# Altium footprint library IntegratedCircuitsFootprints.PcbLib: 13 footprints
Each footprint in its own frame and in the unit in brackets; x right, y up, seen from the top. Pads: shape width x height; smd on the part's side, far side on the other; paste and mask are expansions set on the pad; w line width, h text height; cw(c..) or ccw(c..) is an arc to the next point about the centre after c.
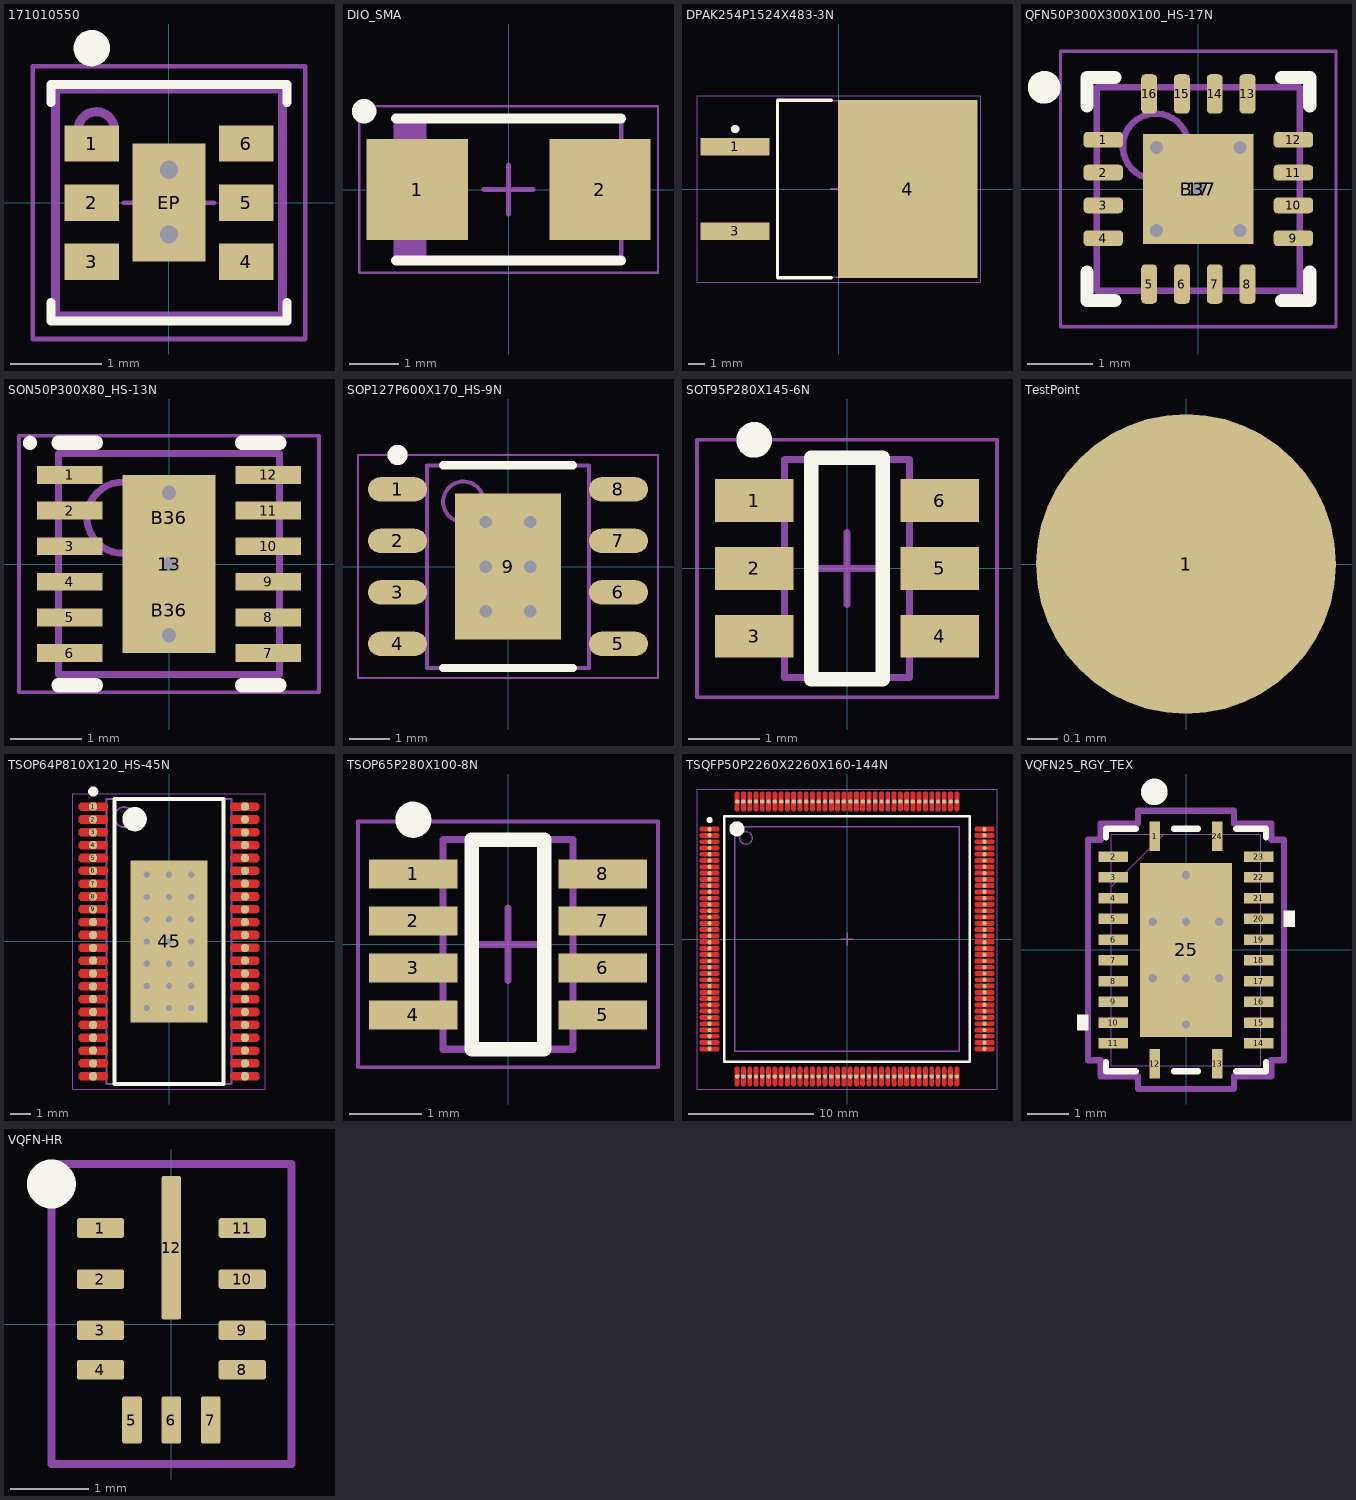
[diagram p0: the footprints below, top view; thin cyan lines are the x and y axes]

## 171010550 [mm]
pads (7):
  rect 0.6x0.4 smd mask+0.102: 1(-0.85,0.65) 2(-0.85,0) 3(-0.85,-0.65) 4(0.85,-0.65) 5(0.85,0) 6(0.85,0.65)
  rect 0.8x1.3 smd mask+0.102: EP(0,0)
via 0,0.362 diameter 0.4 hole 0.2
via 0,-0.349 diameter 0.4 hole 0.2
Top Overlay:
  circle w0.2: c-0.85,1.7 r0.1
  lines w0.1: -1.3,-1.1 -1.3,-1.3 1.3,-1.3 1.3,-1.1 ; -1.3,1.1 -1.3,1.3 1.3,1.3 1.3,1.1
Top 3D Body:
  circle w0.1: c-0.8,0.8 r0.2
  lines w0.1: -1.25,-1.25 1.25,-1.25 1.25,1.25 -1.25,1.25 -1.25,-1.25
Top Courtyard:
  lines w0.05: -0.5,0 0.5,0 ; 0,-0.5 0,0.5 ; -1.5,-1.5 1.5,-1.5 1.5,1.5 -1.5,1.5 -1.5,-1.5
Top Component Outline:
  circle w0.1: c-0.8,0.8 r0.2
  lines w0.1: -1.25,-1.25 1.25,-1.25 1.25,1.25 -1.25,1.25 -1.25,-1.25
3D body "171010550 (rev1).stp": height 1.23, standoff 0.02, extent -1.25,-1.25 1.25,1.25

## DIO_SMA [mm] "Molded Diode, 2-Leads, Body 4.30x2.70mm, IPC Medium Density"
height 2.44
pads (2):
  rect 2.07x2.06 smd: 1(-1.865,0) 2(1.865,0)
Top Overlay:
  circle w0.25: c-2.95,1.6 r0.125
  lines w0.2: -2.3,-1.45 2.3,-1.45 ; -2.3,1.45 2.3,1.45
Mechanical 13:
  rectangle: -2.3,-1.45 -1.681,1.45
  lines w0.1: -2.3,-1.45 2.3,-1.45 2.3,1.45 -2.3,1.45 -2.3,-1.45
Mechanical 15:
  lines w0.05: -3.05,-1.7 3.05,-1.7 3.05,1.7 -3.05,1.7 -3.05,-1.7
  lines w0.1: -0.5,0 0.5,0 ; 0,-0.5 0,0.5
3D body "DIO_SMA.step": height 2.44, standoff 0, extent -2.52,-1.45 2.52,1.45

## DPAK254P1524X483-3N [mm] "D2-PAK, 3-Pads, Body 7.93x8.70mm (max), IPC Medium Density"
height 4.83
pads (3):
  rect 4.15x1.05 smd: 1(-6.25,2.54) 3(-6.25,-2.54)
  rect 8.4x10.75 smd: 4(4.15,0)
Top Overlay:
  circle w0.25: c-6.25,3.615 r0.125
  lines w0.2: -0.45,-5.35 -3.7,-5.35 -3.7,5.35 -0.45,5.35
Mechanical 13:
  lines w0.1: -3.7,-5.325 -3.7,5.325 5.95,5.325 5.95,-5.325 -3.7,-5.325
Mechanical 15:
  lines w0.05: -8.55,-5.625 -8.55,5.625 8.55,5.625 8.55,-5.625 -8.55,-5.625
  lines w0.1: -0.5,0 0.5,0 ; 0,-0.5 0,0.5
3D body "DPAK254P1524X483-3N.step": height 4.83, standoff 0, extent -7.405,-5.325 7.84,5.325

## QFN50P300X300X100_HS-17N [mm] "QFN, 16-Leads, Body 3.00x3.00mm, Pitch 0.50mm, Thermal Pad 1.68x1.68mm, IPC Medium Density"
height 1
pads (18):
  rrect50% 0.6x0.24 smd: 1(-1.45,0.75) 2(-1.45,0.25) 3(-1.45,-0.25) 4(-1.45,-0.75) 9(1.45,-0.75) 10(1.45,-0.25) 11(1.45,0.25) 12(1.45,0.75)
  rrect50% 0.24x0.6 smd: 5(-0.75,-1.45) 6(-0.25,-1.45) 7(0.25,-1.45) 8(0.75,-1.45) 13(0.75,1.45) 14(0.25,1.45) 15(-0.25,1.45) 16(-0.75,1.45)
  rect 1.68x1.68 smd paste-1: 17(0,0)
  rrect10% 1.55x1.55 on Top Paste: B37(0,0)
via -0.635,0.635 diameter 0.4 hole 0.2
via 0.635,0.635 diameter 0.4 hole 0.2
via 0,0 diameter 0.4 hole 0.2
via -0.635,-0.635 diameter 0.4 hole 0.2
via 0.635,-0.635 diameter 0.4 hole 0.2
Top Overlay:
  circle w0.25: c-2.35,1.55 r0.125
  lines w0.2: -1.7,-1.27 -1.7,-1.7 -1.27,-1.7 ; -1.7,1.27 -1.7,1.7 -1.27,1.7 ; 1.27,-1.7 1.7,-1.7 1.7,-1.27 ; 1.27,1.7 1.7,1.7 1.7,1.27
Mechanical 13:
  circle w0.1: c-0.65,0.65 r0.5
  lines w0.1: -1.55,-1.55 -1.55,1.55 1.55,1.55 1.55,-1.55 -1.55,-1.55
Mechanical 15:
  lines w0.05: -2.1,-2.1 -2.1,2.1 2.1,2.1 2.1,-2.1 -2.1,-2.1
  lines w0.1: -0.5,0 0.5,0 ; 0,-0.5 0,0.5
3D body "QFN50P300X300X100_HS-17N.step": height 1, standoff 0, extent -1.6,-1.6 1.6,1.6

## SON50P300X80_HS-13N [mm] "SON, 12-Leads, Body 3.00x3.00mm, Pitch 0.50mm, Thermal Pad 2.50x1.30mm, IPC Medium Density"
height 0.8
pads (15):
  rect 0.92x0.25 smd paste+0 mask+0.07: 1(-1.39,1.25) 2(-1.39,0.75) 3(-1.39,0.25) 4(-1.39,-0.25) 5(-1.39,-0.75) 6(-1.39,-1.25) 7(1.39,-1.25) 8(1.39,-0.75) 9(1.39,-0.25) 10(1.39,0.25) 11(1.39,0.75) 12(1.39,1.25)
  rect 1.3x2.5 smd paste-1 mask+0.07: 13(0,0)
  rrect10% 1.21x1.1 on Top Paste: B36(0,-0.65) B36(0,0.65)
via 0,-1 diameter 0.4 hole 0.2
via 0,0 diameter 0.4 hole 0.2
via 0,1 diameter 0.4 hole 0.2
Top Overlay:
  circle w0.1: c-1.95,1.7 r0.05
  lines w0.2: -1.55,-1.7 -1.025,-1.7 ; -1.55,1.7 -1.025,1.7 ; 1.025,-1.7 1.55,-1.7 ; 1.025,1.7 1.55,1.7
Top Courtyard:
  lines w0.05: -2.105,-1.8 -2.105,1.8 2.105,1.8 2.105,-1.8 -2.105,-1.8
  lines w0.1: -0.5,0 0.5,0 ; 0,-0.5 0,0.5
Mechanical 13:
  circle w0.1: c-0.65,0.65 r0.5
  lines w0.1: -1.55,-1.55 -1.55,1.55 1.55,1.55 1.55,-1.55 -1.55,-1.55
3D body "SON50P300X80_HS-13N.step": height 0.8, standoff 0, extent -1.6,-1.55 1.6,1.55

## SOP127P600X170_HS-9N [mm] "SOP, 8-Leads, Body 4.90x3.90mm, Pitch 1.27mm, Thermal Pad 3.60x2.61mm, IPC Medium Density"
height 1.7
pads (9):
  oval 1.45x0.6 smd: 1(-2.725,1.905) 2(-2.725,0.635) 3(-2.725,-0.635) 4(-2.725,-1.905) 5(2.725,-1.905) 6(2.725,-0.635) 7(2.725,0.635) 8(2.725,1.905)
  rect 2.61x3.6 smd: 9(0,0)
via -0.55,1.1 diameter 0.61 hole 0.305
via 0.55,1.1 diameter 0.61 hole 0.305
via -0.55,0 diameter 0.61 hole 0.305
via 0.55,0 diameter 0.61 hole 0.305
via -0.55,-1.1 diameter 0.61 hole 0.305
via 0.55,-1.1 diameter 0.61 hole 0.305
Top Overlay:
  circle w0.25: c-2.725,2.755 r0.125
  lines w0.2: -1.6,-2.5 1.6,-2.5 ; -1.6,2.5 1.6,2.5
Mechanical 13:
  circle w0.1: c-1.1,1.6 r0.5
  lines w0.1: -2,-2.5 -2,2.5 2,2.5 2,-2.5 -2,-2.5
Mechanical 15:
  lines w0.05: -3.7,-2.75 -3.7,2.75 3.7,2.75 3.7,-2.75 -3.7,-2.75
  lines w0.1: -0.5,0 0.5,0 ; 0,-0.5 0,0.5
3D body "SOP127P600X170_HS-9N.step": height 1.7, standoff 0, extent -3,-2.5 3,2.5

## SOT95P280X145-6N [mm] "SOT23, 6-Leads, Body 2.90x2.80mm, Pitch 0.95mm, IPC Medium Density"
height 1.45
pads (6):
  rect 1.1x0.6 smd: 1(-1.3,0.95) 2(-1.3,0) 3(-1.3,-0.95) 4(1.3,-0.95) 5(1.3,0) 6(1.3,0.95)
Top Overlay:
  circle w0.25: c-1.3,1.8 r0.125
  lines w0.2: -0.5,-1.55 -0.5,1.55 0.5,1.55 0.5,-1.55 -0.5,-1.55
Mechanical 13:
  lines w0.1: -0.875,-1.525 0.875,-1.525 0.875,1.525 -0.875,1.525 -0.875,-1.525
Mechanical 15:
  lines w0.05: -2.1,-1.8 2.1,-1.8 2.1,1.8 -2.1,1.8 -2.1,-1.8
  lines w0.1: -0.5,0 0.5,0 ; 0,-0.5 0,0.5
3D body "SOT95P280X145-6N.step": height 1.45, standoff 0, extent -1.5,-1.525 1.5,1.525

## TestPoint [mm] "1mm"
pads (1):
  round 1 smd mask+0: 1(0,0)

## TSOP64P810X120_HS-45N [mm] "TSOP, 44-Leads, Body 14.00x6.10mm, Pitch 0.64mm, Thermal Pad 8.00x3.80mm, IPC Medium Density"
height 1.2
pads (45):
  oct 0.4x0.4 smd mask+0.05: 1(-3.75,6.667) 2(-3.75,6.032) 3(-3.75,5.397) 4(-3.75,4.763) 5(-3.75,4.127) 6(-3.75,3.492) 7(-3.75,2.857) 8(-3.75,2.222) 9(-3.75,1.587) 10(-3.75,0.953) 11(-3.75,0.318) 12(-3.75,-0.318) 13(-3.75,-0.953) 14(-3.75,-1.587) 15(-3.75,-2.222) 16(-3.75,-2.857) 17(-3.75,-3.492) 18(-3.75,-4.127) 19(-3.75,-4.763) 20(-3.75,-5.397) 21(-3.75,-6.032) 22(-3.75,-6.667) 23(3.75,-6.667) 24(3.75,-6.032) 25(3.75,-5.397) 26(3.75,-4.763) 27(3.75,-4.127) 28(3.75,-3.492) 29(3.75,-2.857) 30(3.75,-2.222) 31(3.75,-1.587) 32(3.75,-0.953) 33(3.75,-0.318) 34(3.75,0.318) 35(3.75,0.953) 36(3.75,1.587) 37(3.75,2.222) 38(3.75,2.857) 39(3.75,3.492) 40(3.75,4.127) 41(3.75,4.763) 42(3.75,5.397) 43(3.75,6.032) 44(3.75,6.667)
  rect 3.8x8 smd: 45(0,0)
via 1.1,-3.3 diameter 0.61 hole 0.305
via 0,-3.3 diameter 0.61 hole 0.305
via -1.1,-3.3 diameter 0.61 hole 0.305
via 1.1,-2.2 diameter 0.61 hole 0.305
via 0,-2.2 diameter 0.61 hole 0.305
via -1.1,-2.2 diameter 0.61 hole 0.305
via 1.1,-1.1 diameter 0.61 hole 0.305
via 0,-1.1 diameter 0.61 hole 0.305
via -1.1,-1.1 diameter 0.61 hole 0.305
via 1.1,0 diameter 0.61 hole 0.305
via 0,0 diameter 0.61 hole 0.305
via -1.1,0 diameter 0.61 hole 0.305
via 1.1,1.1 diameter 0.61 hole 0.305
via 0,1.1 diameter 0.61 hole 0.305
via -1.1,1.1 diameter 0.61 hole 0.305
via 1.1,2.2 diameter 0.61 hole 0.305
via 0,2.2 diameter 0.61 hole 0.305
via -1.1,2.2 diameter 0.61 hole 0.305
via 1.1,3.3 diameter 0.61 hole 0.305
via 0,3.3 diameter 0.61 hole 0.305
via -1.1,3.3 diameter 0.61 hole 0.305
Top Layer:
  region: 3.025,-4.862 3.025,-4.663 3.125,-4.563 4.375,-4.563 4.475,-4.663 4.475,-4.862 4.375,-4.962 3.125,-4.962
  region: 3.025,-4.227 3.025,-4.028 3.125,-3.928 4.375,-3.928 4.475,-4.028 4.475,-4.227 4.375,-4.327 3.125,-4.327
  region: 3.025,-3.592 3.025,-3.393 3.125,-3.293 4.375,-3.293 4.475,-3.393 4.475,-3.592 4.375,-3.692 3.125,-3.692
  region: 3.025,-2.957 3.025,-2.758 3.125,-2.658 4.375,-2.658 4.475,-2.758 4.475,-2.957 4.375,-3.057 3.125,-3.057
  region: 3.025,-2.322 3.025,-2.123 3.125,-2.023 4.375,-2.023 4.475,-2.123 4.475,-2.322 4.375,-2.422 3.125,-2.422
  region: 3.025,-1.687 3.025,-1.488 3.125,-1.388 4.375,-1.388 4.475,-1.488 4.475,-1.687 4.375,-1.787 3.125,-1.787
  region: 3.025,-1.052 3.025,-0.853 3.125,-0.753 4.375,-0.753 4.475,-0.853 4.475,-1.052 4.375,-1.152 3.125,-1.152
  region: 3.025,-0.417 3.025,-0.218 3.125,-0.118 4.375,-0.118 4.475,-0.218 4.475,-0.417 4.375,-0.517 3.125,-0.517
  region: 3.025,0.218 3.025,0.417 3.125,0.517 4.375,0.517 4.475,0.417 4.475,0.218 4.375,0.118 3.125,0.118
  region: 3.025,0.853 3.025,1.052 3.125,1.152 4.375,1.152 4.475,1.052 4.475,0.853 4.375,0.753 3.125,0.753
  region: 3.025,1.488 3.025,1.687 3.125,1.787 4.375,1.787 4.475,1.687 4.475,1.488 4.375,1.388 3.125,1.388
  region: 3.025,2.123 3.025,2.322 3.125,2.422 4.375,2.422 4.475,2.322 4.475,2.123 4.375,2.023 3.125,2.023
  region: 3.025,2.758 3.025,2.957 3.125,3.057 4.375,3.057 4.475,2.957 4.475,2.758 4.375,2.658 3.125,2.658
  region: 3.025,3.393 3.025,3.592 3.125,3.692 4.375,3.692 4.475,3.592 4.475,3.393 4.375,3.293 3.125,3.293
  region: 3.025,4.028 3.025,4.227 3.125,4.327 4.375,4.327 4.475,4.227 4.475,4.028 4.375,3.928 3.125,3.928
  region: 3.025,4.663 3.025,4.862 3.125,4.962 4.375,4.962 4.475,4.862 4.475,4.663 4.375,4.563 3.125,4.563
  region: 3.025,5.298 3.025,5.497 3.125,5.597 4.375,5.597 4.475,5.497 4.475,5.298 4.375,5.198 3.125,5.198
  region: 3.025,5.933 3.025,6.132 3.125,6.232 4.375,6.232 4.475,6.132 4.475,5.933 4.375,5.833 3.125,5.833
  region: 3.025,6.568 3.025,6.767 3.125,6.867 4.375,6.867 4.475,6.767 4.475,6.568 4.375,6.468 3.125,6.468
  region: -4.475,-6.767 -4.475,-6.568 -4.375,-6.468 -3.125,-6.468 -3.025,-6.568 -3.025,-6.767 -3.125,-6.867 -4.375,-6.867
  region: -4.475,-6.132 -4.475,-5.933 -4.375,-5.833 -3.125,-5.833 -3.025,-5.933 -3.025,-6.132 -3.125,-6.232 -4.375,-6.232
  region: -4.475,-5.497 -4.475,-5.298 -4.375,-5.198 -3.125,-5.198 -3.025,-5.298 -3.025,-5.497 -3.125,-5.597 -4.375,-5.597
  region: -4.475,-4.862 -4.475,-4.663 -4.375,-4.563 -3.125,-4.563 -3.025,-4.663 -3.025,-4.862 -3.125,-4.962 -4.375,-4.962
  region: -4.475,-4.227 -4.475,-4.028 -4.375,-3.928 -3.125,-3.928 -3.025,-4.028 -3.025,-4.227 -3.125,-4.327 -4.375,-4.327
  region: -4.475,-3.592 -4.475,-3.393 -4.375,-3.293 -3.125,-3.293 -3.025,-3.393 -3.025,-3.592 -3.125,-3.692 -4.375,-3.692
  region: -4.475,-2.957 -4.475,-2.758 -4.375,-2.658 -3.125,-2.658 -3.025,-2.758 -3.025,-2.957 -3.125,-3.057 -4.375,-3.057
  region: -4.475,-2.322 -4.475,-2.123 -4.375,-2.023 -3.125,-2.023 -3.025,-2.123 -3.025,-2.322 -3.125,-2.422 -4.375,-2.422
  region: -4.475,-1.687 -4.475,-1.488 -4.375,-1.388 -3.125,-1.388 -3.025,-1.488 -3.025,-1.687 -3.125,-1.787 -4.375,-1.787
  region: -4.475,-1.052 -4.475,-0.853 -4.375,-0.753 -3.125,-0.753 -3.025,-0.853 -3.025,-1.052 -3.125,-1.152 -4.375,-1.152
  region: -4.475,-0.417 -4.475,-0.218 -4.375,-0.118 -3.125,-0.118 -3.025,-0.218 -3.025,-0.417 -3.125,-0.517 -4.375,-0.517
  region: -4.475,0.218 -4.475,0.417 -4.375,0.517 -3.125,0.517 -3.025,0.417 -3.025,0.218 -3.125,0.118 -4.375,0.118
  region: -4.475,0.853 -4.475,1.052 -4.375,1.152 -3.125,1.152 -3.025,1.052 -3.025,0.853 -3.125,0.753 -4.375,0.753
  region: -4.475,1.488 -4.475,1.687 -4.375,1.787 -3.125,1.787 -3.025,1.687 -3.025,1.488 -3.125,1.388 -4.375,1.388
  region: -4.475,2.123 -4.475,2.322 -4.375,2.422 -3.125,2.422 -3.025,2.322 -3.025,2.123 -3.125,2.023 -4.375,2.023
  region: -4.475,2.758 -4.475,2.957 -4.375,3.057 -3.125,3.057 -3.025,2.957 -3.025,2.758 -3.125,2.658 -4.375,2.658
  region: -4.475,3.393 -4.475,3.592 -4.375,3.692 -3.125,3.692 -3.025,3.592 -3.025,3.393 -3.125,3.293 -4.375,3.293
  region: -4.475,4.028 -4.475,4.227 -4.375,4.327 -3.125,4.327 -3.025,4.227 -3.025,4.028 -3.125,3.928 -4.375,3.928
  region: -4.475,4.663 -4.475,4.862 -4.375,4.962 -3.125,4.962 -3.025,4.862 -3.025,4.663 -3.125,4.563 -4.375,4.563
  region: -4.475,5.298 -4.475,5.497 -4.375,5.597 -3.125,5.597 -3.025,5.497 -3.025,5.298 -3.125,5.198 -4.375,5.198
  region: -4.475,5.933 -4.475,6.132 -4.375,6.232 -3.125,6.232 -3.025,6.132 -3.025,5.933 -3.125,5.833 -4.375,5.833
  region: -4.475,6.568 -4.475,6.767 -4.375,6.867 -3.125,6.867 -3.025,6.767 -3.025,6.568 -3.125,6.468 -4.375,6.468
  region: 3.025,-6.767 3.025,-6.568 3.125,-6.468 4.375,-6.468 4.475,-6.568 4.475,-6.767 4.375,-6.867 3.125,-6.867
  region: 3.025,-6.132 3.025,-5.933 3.125,-5.833 4.375,-5.833 4.475,-5.933 4.475,-6.132 4.375,-6.232 3.125,-6.232
  region: 3.025,-5.497 3.025,-5.298 3.125,-5.198 4.375,-5.198 4.475,-5.298 4.475,-5.497 4.375,-5.597 3.125,-5.597
Top Overlay:
  circle w0.6: c-1.7,6.05 r0.3
  circle w0.25: c-3.75,7.418 r0.125
  lines w0.2: -2.7,-7.05 2.7,-7.05 2.7,7.05 -2.7,7.05 -2.7,-7.05
Mechanical 13:
  circle w0.1: c-2.2,6.15 r0.5
  lines w0.1: -3.1,-7.05 3.1,-7.05 3.1,7.05 -3.1,7.05 -3.1,-7.05
Mechanical 15:
  lines w0.05: -4.75,-7.3 4.75,-7.3 4.75,7.3 -4.75,7.3 -4.75,-7.3
  lines w0.1: -0.5,0 0.5,0 ; 0,-0.5 0,0.5
3D body "TSOP64P810X120_HS-45N.step": height 1.2, standoff 0, extent -4.05,-7.05 4.05,7.05

## TSOP65P280X100-8N [mm] "TSOP, 8-Leads, Body 2.90x1.63mm, Pitch 0.65mm, IPC Medium Density"
height 1
pads (8):
  rect 1.22x0.4 smd: 1(-1.31,0.975) 2(-1.31,0.325) 3(-1.31,-0.325) 4(-1.31,-0.975) 5(1.31,-0.975) 6(1.31,-0.325) 7(1.31,0.325) 8(1.31,0.975)
Top Overlay:
  circle w0.25: c-1.31,1.725 r0.125
  lines w0.2: -0.5,-1.45 -0.5,1.45 0.5,1.45 0.5,-1.45 -0.5,-1.45
Mechanical 13:
  lines w0.1: -0.9,-1.45 -0.9,1.45 0.9,1.45 0.9,-1.45 -0.9,-1.45
Mechanical 15:
  lines w0.05: -2.075,-1.7 -2.075,1.7 2.075,1.7 2.075,-1.7 -2.075,-1.7
  lines w0.1: -0.5,0 0.5,0 ; 0,-0.5 0,0.5
3D body "TSOP65P280X100-8N.step": height 1, standoff 0, extent -1.4,-1.45 1.4,1.45

## TSQFP50P2260X2260X160-144N [mm] "TSQFP, 144-Leads, Body 17.85x17.85mm, Pitch 0.50mm, IPC Medium Density"
height 1.6
pads (144):
  oct 0.35x0.35 smd: 1(-10.95,8.75) 2(-10.95,8.25) 3(-10.95,7.75) 4(-10.95,7.25) 5(-10.95,6.75) 6(-10.95,6.25) 7(-10.95,5.75) 8(-10.95,5.25) 9(-10.95,4.75) 10(-10.95,4.25) 11(-10.95,3.75) 12(-10.95,3.25) 13(-10.95,2.75) 14(-10.95,2.25) 15(-10.95,1.75) 16(-10.95,1.25) 17(-10.95,0.75) 18(-10.95,0.25) 19(-10.95,-0.25) 20(-10.95,-0.75) 21(-10.95,-1.25) 22(-10.95,-1.75) 23(-10.95,-2.25) 24(-10.95,-2.75) 25(-10.95,-3.25) 26(-10.95,-3.75) 27(-10.95,-4.25) 28(-10.95,-4.75) 29(-10.95,-5.25) 30(-10.95,-5.75) 31(-10.95,-6.25) 32(-10.95,-6.75) 33(-10.95,-7.25) 34(-10.95,-7.75) 35(-10.95,-8.25) 36(-10.95,-8.75) 37(-8.75,-10.95) 38(-8.25,-10.95) 39(-7.75,-10.95) 40(-7.25,-10.95) 41(-6.75,-10.95) 42(-6.25,-10.95) 43(-5.75,-10.95) 44(-5.25,-10.95) 45(-4.75,-10.95) 46(-4.25,-10.95) 47(-3.75,-10.95) 48(-3.25,-10.95) 49(-2.75,-10.95) 50(-2.25,-10.95) 51(-1.75,-10.95) 52(-1.25,-10.95) 53(-0.75,-10.95) 54(-0.25,-10.95) 55(0.25,-10.95) 56(0.75,-10.95) 57(1.25,-10.95) 58(1.75,-10.95) 59(2.25,-10.95) 60(2.75,-10.95) 61(3.25,-10.95) 62(3.75,-10.95) 63(4.25,-10.95) 64(4.75,-10.95) 65(5.25,-10.95) 66(5.75,-10.95) 67(6.25,-10.95) 68(6.75,-10.95) 69(7.25,-10.95) 70(7.75,-10.95) 71(8.25,-10.95) 72(8.75,-10.95) 73(10.95,-8.75) 74(10.95,-8.25) 75(10.95,-7.75) 76(10.95,-7.25) 77(10.95,-6.75) 78(10.95,-6.25) 79(10.95,-5.75) 80(10.95,-5.25) 81(10.95,-4.75) 82(10.95,-4.25) 83(10.95,-3.75) 84(10.95,-3.25) 85(10.95,-2.75) 86(10.95,-2.25) 87(10.95,-1.75) 88(10.95,-1.25) 89(10.95,-0.75) 90(10.95,-0.25) 91(10.95,0.25) 92(10.95,0.75) 93(10.95,1.25) 94(10.95,1.75) 95(10.95,2.25) 96(10.95,2.75) 97(10.95,3.25) 98(10.95,3.75) 99(10.95,4.25) 100(10.95,4.75) 101(10.95,5.25) 102(10.95,5.75) 103(10.95,6.25) 104(10.95,6.75) 105(10.95,7.25) 106(10.95,7.75) 107(10.95,8.25) 108(10.95,8.75) 109(8.75,10.95) 110(8.25,10.95) 111(7.75,10.95) 112(7.25,10.95) 113(6.75,10.95) 114(6.25,10.95) 115(5.75,10.95) 116(5.25,10.95) 117(4.75,10.95) 118(4.25,10.95) 119(3.75,10.95) 120(3.25,10.95) 121(2.75,10.95) 122(2.25,10.95) 123(1.75,10.95) 124(1.25,10.95) 125(0.75,10.95) 126(0.25,10.95) 127(-0.25,10.95) 128(-0.75,10.95) 129(-1.25,10.95) 130(-1.75,10.95) 131(-2.25,10.95) 132(-2.75,10.95) 133(-3.25,10.95) 134(-3.75,10.95) 135(-4.25,10.95) 136(-4.75,10.95) 137(-5.25,10.95) 138(-5.75,10.95) 139(-6.25,10.95) 140(-6.75,10.95) 141(-7.25,10.95) 142(-7.75,10.95) 143(-8.25,10.95) 144(-8.75,10.95)
Top Layer:
  region: -11.725,8.662 -11.725,8.838 -11.638,8.925 -10.263,8.925 -10.175,8.838 -10.175,8.662 -10.263,8.575 -11.638,8.575
  region: -11.725,8.163 -11.725,8.338 -11.638,8.425 -10.263,8.425 -10.175,8.338 -10.175,8.163 -10.263,8.075 -11.638,8.075
  region: -11.725,7.662 -11.725,7.838 -11.638,7.925 -10.263,7.925 -10.175,7.838 -10.175,7.662 -10.263,7.575 -11.638,7.575
  region: -11.725,7.163 -11.725,7.338 -11.638,7.425 -10.263,7.425 -10.175,7.338 -10.175,7.163 -10.263,7.075 -11.638,7.075
  region: -11.725,6.663 -11.725,6.838 -11.638,6.925 -10.263,6.925 -10.175,6.838 -10.175,6.663 -10.263,6.575 -11.638,6.575
  region: -11.725,6.162 -11.725,6.338 -11.638,6.425 -10.263,6.425 -10.175,6.338 -10.175,6.162 -10.263,6.075 -11.638,6.075
  region: -11.725,5.663 -11.725,5.838 -11.638,5.925 -10.263,5.925 -10.175,5.838 -10.175,5.663 -10.263,5.575 -11.638,5.575
  region: -11.725,5.163 -11.725,5.338 -11.638,5.425 -10.263,5.425 -10.175,5.338 -10.175,5.163 -10.263,5.075 -11.638,5.075
  region: -11.725,4.663 -11.725,4.838 -11.638,4.925 -10.263,4.925 -10.175,4.838 -10.175,4.663 -10.263,4.575 -11.638,4.575
  region: -11.725,4.163 -11.725,4.338 -11.638,4.425 -10.263,4.425 -10.175,4.338 -10.175,4.163 -10.263,4.075 -11.638,4.075
  region: -11.725,3.662 -11.725,3.838 -11.638,3.925 -10.263,3.925 -10.175,3.838 -10.175,3.662 -10.263,3.575 -11.638,3.575
  region: -11.725,3.163 -11.725,3.338 -11.638,3.425 -10.263,3.425 -10.175,3.338 -10.175,3.163 -10.263,3.075 -11.638,3.075
  region: -11.725,2.663 -11.725,2.838 -11.638,2.925 -10.263,2.925 -10.175,2.838 -10.175,2.663 -10.263,2.575 -11.638,2.575
  region: -11.725,2.163 -11.725,2.338 -11.638,2.425 -10.263,2.425 -10.175,2.338 -10.175,2.163 -10.263,2.075 -11.638,2.075
  region: -11.725,1.663 -11.725,1.838 -11.638,1.925 -10.263,1.925 -10.175,1.838 -10.175,1.663 -10.263,1.575 -11.638,1.575
  region: -11.725,1.162 -11.725,1.338 -11.638,1.425 -10.263,1.425 -10.175,1.338 -10.175,1.162 -10.263,1.075 -11.638,1.075
  region: -11.725,0.663 -11.725,0.838 -11.638,0.925 -10.263,0.925 -10.175,0.838 -10.175,0.663 -10.263,0.575 -11.638,0.575
  region: -11.725,0.163 -11.725,0.338 -11.638,0.425 -10.263,0.425 -10.175,0.338 -10.175,0.163 -10.263,0.075 -11.638,0.075
  region: -11.725,-0.337 -11.725,-0.162 -11.638,-0.075 -10.263,-0.075 -10.175,-0.162 -10.175,-0.337 -10.263,-0.425 -11.638,-0.425
  region: -11.725,-0.837 -11.725,-0.662 -11.638,-0.575 -10.263,-0.575 -10.175,-0.662 -10.175,-0.837 -10.263,-0.925 -11.638,-0.925
  region: -11.725,-1.338 -11.725,-1.162 -11.638,-1.075 -10.263,-1.075 -10.175,-1.162 -10.175,-1.338 -10.263,-1.425 -11.638,-1.425
  region: -11.725,-1.837 -11.725,-1.662 -11.638,-1.575 -10.263,-1.575 -10.175,-1.662 -10.175,-1.837 -10.263,-1.925 -11.638,-1.925
  region: -11.725,-2.337 -11.725,-2.162 -11.638,-2.075 -10.263,-2.075 -10.175,-2.162 -10.175,-2.337 -10.263,-2.425 -11.638,-2.425
  region: -11.725,-2.838 -11.725,-2.662 -11.638,-2.575 -10.263,-2.575 -10.175,-2.662 -10.175,-2.838 -10.263,-2.925 -11.638,-2.925
  region: -11.725,-3.337 -11.725,-3.162 -11.638,-3.075 -10.263,-3.075 -10.175,-3.162 -10.175,-3.337 -10.263,-3.425 -11.638,-3.425
  region: -11.725,-3.838 -11.725,-3.662 -11.638,-3.575 -10.263,-3.575 -10.175,-3.662 -10.175,-3.838 -10.263,-3.925 -11.638,-3.925
  region: -11.725,-4.337 -11.725,-4.162 -11.638,-4.075 -10.263,-4.075 -10.175,-4.162 -10.175,-4.337 -10.263,-4.425 -11.638,-4.425
  region: -11.725,-4.837 -11.725,-4.662 -11.638,-4.575 -10.263,-4.575 -10.175,-4.662 -10.175,-4.837 -10.263,-4.925 -11.638,-4.925
  region: -11.725,-5.338 -11.725,-5.162 -11.638,-5.075 -10.263,-5.075 -10.175,-5.162 -10.175,-5.338 -10.263,-5.425 -11.638,-5.425
  region: -11.725,-5.837 -11.725,-5.662 -11.638,-5.575 -10.263,-5.575 -10.175,-5.662 -10.175,-5.837 -10.263,-5.925 -11.638,-5.925
  region: -11.725,-6.338 -11.725,-6.162 -11.638,-6.075 -10.263,-6.075 -10.175,-6.162 -10.175,-6.338 -10.263,-6.425 -11.638,-6.425
  region: -11.725,-6.837 -11.725,-6.662 -11.638,-6.575 -10.263,-6.575 -10.175,-6.662 -10.175,-6.837 -10.263,-6.925 -11.638,-6.925
  region: -11.725,-7.337 -11.725,-7.162 -11.638,-7.075 -10.263,-7.075 -10.175,-7.162 -10.175,-7.337 -10.263,-7.425 -11.638,-7.425
  region: -11.725,-7.838 -11.725,-7.662 -11.638,-7.575 -10.263,-7.575 -10.175,-7.662 -10.175,-7.838 -10.263,-7.925 -11.638,-7.925
  region: -11.725,-8.337 -11.725,-8.162 -11.638,-8.075 -10.263,-8.075 -10.175,-8.162 -10.175,-8.337 -10.263,-8.425 -11.638,-8.425
  region: -11.725,-8.838 -11.725,-8.662 -11.638,-8.575 -10.263,-8.575 -10.175,-8.662 -10.175,-8.838 -10.263,-8.925 -11.638,-8.925
  region: -8.925,-11.637 -8.838,-11.725 -8.662,-11.725 -8.575,-11.637 -8.575,-10.262 -8.662,-10.175 -8.838,-10.175 -8.925,-10.262
  region: -8.425,-11.637 -8.338,-11.725 -8.163,-11.725 -8.075,-11.637 -8.075,-10.262 -8.163,-10.175 -8.338,-10.175 -8.425,-10.262
  region: -7.925,-11.637 -7.838,-11.725 -7.662,-11.725 -7.575,-11.637 -7.575,-10.262 -7.662,-10.175 -7.838,-10.175 -7.925,-10.262
  region: -7.425,-11.637 -7.338,-11.725 -7.163,-11.725 -7.075,-11.637 -7.075,-10.262 -7.163,-10.175 -7.338,-10.175 -7.425,-10.262
  region: -6.925,-11.637 -6.838,-11.725 -6.663,-11.725 -6.575,-11.637 -6.575,-10.262 -6.663,-10.175 -6.838,-10.175 -6.925,-10.262
  region: -6.425,-11.637 -6.338,-11.725 -6.162,-11.725 -6.075,-11.637 -6.075,-10.262 -6.162,-10.175 -6.338,-10.175 -6.425,-10.262
  region: -5.925,-11.637 -5.838,-11.725 -5.663,-11.725 -5.575,-11.637 -5.575,-10.262 -5.663,-10.175 -5.838,-10.175 -5.925,-10.262
  region: -5.425,-11.637 -5.338,-11.725 -5.163,-11.725 -5.075,-11.637 -5.075,-10.262 -5.163,-10.175 -5.338,-10.175 -5.425,-10.262
  region: -4.925,-11.637 -4.838,-11.725 -4.663,-11.725 -4.575,-11.637 -4.575,-10.262 -4.663,-10.175 -4.838,-10.175 -4.925,-10.262
  region: -4.425,-11.637 -4.338,-11.725 -4.163,-11.725 -4.075,-11.637 -4.075,-10.262 -4.163,-10.175 -4.338,-10.175 -4.425,-10.262
  region: -3.925,-11.637 -3.838,-11.725 -3.662,-11.725 -3.575,-11.637 -3.575,-10.262 -3.662,-10.175 -3.838,-10.175 -3.925,-10.262
  region: -3.425,-11.637 -3.338,-11.725 -3.163,-11.725 -3.075,-11.637 -3.075,-10.262 -3.163,-10.175 -3.338,-10.175 -3.425,-10.262
  region: -2.925,-11.637 -2.838,-11.725 -2.663,-11.725 -2.575,-11.637 -2.575,-10.262 -2.663,-10.175 -2.838,-10.175 -2.925,-10.262
  region: -2.425,-11.637 -2.338,-11.725 -2.163,-11.725 -2.075,-11.637 -2.075,-10.262 -2.163,-10.175 -2.338,-10.175 -2.425,-10.262
  region: -1.925,-11.637 -1.838,-11.725 -1.663,-11.725 -1.575,-11.637 -1.575,-10.262 -1.663,-10.175 -1.838,-10.175 -1.925,-10.262
  region: -1.425,-11.637 -1.338,-11.725 -1.162,-11.725 -1.075,-11.637 -1.075,-10.262 -1.162,-10.175 -1.338,-10.175 -1.425,-10.262
  region: -0.925,-11.637 -0.838,-11.725 -0.663,-11.725 -0.575,-11.637 -0.575,-10.262 -0.663,-10.175 -0.838,-10.175 -0.925,-10.262
  region: -0.425,-11.637 -0.338,-11.725 -0.163,-11.725 -0.075,-11.637 -0.075,-10.262 -0.163,-10.175 -0.338,-10.175 -0.425,-10.262
  region: 0.075,-11.637 0.162,-11.725 0.337,-11.725 0.425,-11.637 0.425,-10.262 0.337,-10.175 0.162,-10.175 0.075,-10.262
  region: 0.575,-11.637 0.662,-11.725 0.837,-11.725 0.925,-11.637 0.925,-10.262 0.837,-10.175 0.662,-10.175 0.575,-10.262
  region: 1.075,-11.637 1.162,-11.725 1.338,-11.725 1.425,-11.637 1.425,-10.262 1.338,-10.175 1.162,-10.175 1.075,-10.262
  region: 1.575,-11.637 1.662,-11.725 1.837,-11.725 1.925,-11.637 1.925,-10.262 1.837,-10.175 1.662,-10.175 1.575,-10.262
  region: 2.075,-11.637 2.162,-11.725 2.337,-11.725 2.425,-11.637 2.425,-10.262 2.337,-10.175 2.162,-10.175 2.075,-10.262
  region: 2.575,-11.637 2.662,-11.725 2.838,-11.725 2.925,-11.637 2.925,-10.262 2.838,-10.175 2.662,-10.175 2.575,-10.262
  region: 3.075,-11.637 3.162,-11.725 3.337,-11.725 3.425,-11.637 3.425,-10.262 3.337,-10.175 3.162,-10.175 3.075,-10.262
  region: 3.575,-11.637 3.662,-11.725 3.838,-11.725 3.925,-11.637 3.925,-10.262 3.838,-10.175 3.662,-10.175 3.575,-10.262
  region: 4.075,-11.637 4.162,-11.725 4.337,-11.725 4.425,-11.637 4.425,-10.262 4.337,-10.175 4.162,-10.175 4.075,-10.262
  region: 4.575,-11.637 4.662,-11.725 4.837,-11.725 4.925,-11.637 4.925,-10.262 4.837,-10.175 4.662,-10.175 4.575,-10.262
  region: 5.075,-11.637 5.162,-11.725 5.338,-11.725 5.425,-11.637 5.425,-10.262 5.338,-10.175 5.162,-10.175 5.075,-10.262
  region: 5.575,-11.637 5.662,-11.725 5.837,-11.725 5.925,-11.637 5.925,-10.262 5.837,-10.175 5.662,-10.175 5.575,-10.262
  region: 6.075,-11.637 6.162,-11.725 6.338,-11.725 6.425,-11.637 6.425,-10.262 6.338,-10.175 6.162,-10.175 6.075,-10.262
  region: 6.575,-11.637 6.662,-11.725 6.837,-11.725 6.925,-11.637 6.925,-10.262 6.837,-10.175 6.662,-10.175 6.575,-10.262
  region: 7.075,-11.637 7.162,-11.725 7.337,-11.725 7.425,-11.637 7.425,-10.262 7.337,-10.175 7.162,-10.175 7.075,-10.262
  region: 7.575,-11.637 7.662,-11.725 7.838,-11.725 7.925,-11.637 7.925,-10.262 7.838,-10.175 7.662,-10.175 7.575,-10.262
  region: 8.075,-11.637 8.162,-11.725 8.337,-11.725 8.425,-11.637 8.425,-10.262 8.337,-10.175 8.162,-10.175 8.075,-10.262
  region: 8.575,-11.637 8.662,-11.725 8.838,-11.725 8.925,-11.637 8.925,-10.262 8.838,-10.175 8.662,-10.175 8.575,-10.262
  region: 10.175,-8.838 10.175,-8.662 10.262,-8.575 11.637,-8.575 11.725,-8.662 11.725,-8.838 11.637,-8.925 10.262,-8.925
  region: 10.175,-8.337 10.175,-8.162 10.262,-8.075 11.637,-8.075 11.725,-8.162 11.725,-8.337 11.637,-8.425 10.262,-8.425
  region: 10.175,-7.838 10.175,-7.662 10.262,-7.575 11.637,-7.575 11.725,-7.662 11.725,-7.838 11.637,-7.925 10.262,-7.925
  region: 10.175,-7.337 10.175,-7.162 10.262,-7.075 11.637,-7.075 11.725,-7.162 11.725,-7.337 11.637,-7.425 10.262,-7.425
  region: 10.175,-6.837 10.175,-6.662 10.262,-6.575 11.637,-6.575 11.725,-6.662 11.725,-6.837 11.637,-6.925 10.262,-6.925
  region: 10.175,-6.338 10.175,-6.162 10.262,-6.075 11.637,-6.075 11.725,-6.162 11.725,-6.338 11.637,-6.425 10.262,-6.425
  region: 10.175,-5.837 10.175,-5.662 10.262,-5.575 11.637,-5.575 11.725,-5.662 11.725,-5.837 11.637,-5.925 10.262,-5.925
  region: 10.175,-5.338 10.175,-5.162 10.262,-5.075 11.637,-5.075 11.725,-5.162 11.725,-5.338 11.637,-5.425 10.262,-5.425
  region: 10.175,-4.837 10.175,-4.662 10.262,-4.575 11.637,-4.575 11.725,-4.662 11.725,-4.837 11.637,-4.925 10.262,-4.925
  region: 10.175,-4.337 10.175,-4.162 10.262,-4.075 11.637,-4.075 11.725,-4.162 11.725,-4.337 11.637,-4.425 10.262,-4.425
  region: 10.175,-3.838 10.175,-3.662 10.262,-3.575 11.637,-3.575 11.725,-3.662 11.725,-3.838 11.637,-3.925 10.262,-3.925
  region: 10.175,-3.337 10.175,-3.162 10.262,-3.075 11.637,-3.075 11.725,-3.162 11.725,-3.337 11.637,-3.425 10.262,-3.425
  region: 10.175,-2.838 10.175,-2.662 10.262,-2.575 11.637,-2.575 11.725,-2.662 11.725,-2.838 11.637,-2.925 10.262,-2.925
  region: 10.175,-2.337 10.175,-2.162 10.262,-2.075 11.637,-2.075 11.725,-2.162 11.725,-2.337 11.637,-2.425 10.262,-2.425
  region: 10.175,-1.837 10.175,-1.662 10.262,-1.575 11.637,-1.575 11.725,-1.662 11.725,-1.837 11.637,-1.925 10.262,-1.925
  region: 10.175,-1.338 10.175,-1.162 10.262,-1.075 11.637,-1.075 11.725,-1.162 11.725,-1.338 11.637,-1.425 10.262,-1.425
  region: 10.175,-0.837 10.175,-0.662 10.262,-0.575 11.637,-0.575 11.725,-0.662 11.725,-0.837 11.637,-0.925 10.262,-0.925
  region: 10.175,-0.337 10.175,-0.162 10.262,-0.075 11.637,-0.075 11.725,-0.162 11.725,-0.337 11.637,-0.425 10.262,-0.425
  region: 10.175,0.163 10.175,0.338 10.262,0.425 11.637,0.425 11.725,0.338 11.725,0.163 11.637,0.075 10.262,0.075
  region: 10.175,0.663 10.175,0.838 10.262,0.925 11.637,0.925 11.725,0.838 11.725,0.663 11.637,0.575 10.262,0.575
  region: 10.175,1.162 10.175,1.338 10.262,1.425 11.637,1.425 11.725,1.338 11.725,1.162 11.637,1.075 10.262,1.075
  region: 10.175,1.663 10.175,1.838 10.262,1.925 11.637,1.925 11.725,1.838 11.725,1.663 11.637,1.575 10.262,1.575
  region: 10.175,2.163 10.175,2.338 10.262,2.425 11.637,2.425 11.725,2.338 11.725,2.163 11.637,2.075 10.262,2.075
  region: 10.175,2.663 10.175,2.838 10.262,2.925 11.637,2.925 11.725,2.838 11.725,2.663 11.637,2.575 10.262,2.575
  region: 10.175,3.163 10.175,3.338 10.262,3.425 11.637,3.425 11.725,3.338 11.725,3.163 11.637,3.075 10.262,3.075
  region: 10.175,3.662 10.175,3.838 10.262,3.925 11.637,3.925 11.725,3.838 11.725,3.662 11.637,3.575 10.262,3.575
  region: 10.175,4.163 10.175,4.338 10.262,4.425 11.637,4.425 11.725,4.338 11.725,4.163 11.637,4.075 10.262,4.075
  region: 10.175,4.663 10.175,4.838 10.262,4.925 11.637,4.925 11.725,4.838 11.725,4.663 11.637,4.575 10.262,4.575
  region: 10.175,5.163 10.175,5.338 10.262,5.425 11.637,5.425 11.725,5.338 11.725,5.163 11.637,5.075 10.262,5.075
  region: 10.175,5.663 10.175,5.838 10.262,5.925 11.637,5.925 11.725,5.838 11.725,5.663 11.637,5.575 10.262,5.575
  region: 10.175,6.162 10.175,6.338 10.262,6.425 11.637,6.425 11.725,6.338 11.725,6.162 11.637,6.075 10.262,6.075
  region: 10.175,6.663 10.175,6.838 10.262,6.925 11.637,6.925 11.725,6.838 11.725,6.663 11.637,6.575 10.262,6.575
  region: 10.175,7.163 10.175,7.338 10.262,7.425 11.637,7.425 11.725,7.338 11.725,7.163 11.637,7.075 10.262,7.075
  region: 10.175,7.662 10.175,7.838 10.262,7.925 11.637,7.925 11.725,7.838 11.725,7.662 11.637,7.575 10.262,7.575
  region: 10.175,8.163 10.175,8.338 10.262,8.425 11.637,8.425 11.725,8.338 11.725,8.163 11.637,8.075 10.262,8.075
  region: 10.175,8.662 10.175,8.838 10.262,8.925 11.637,8.925 11.725,8.838 11.725,8.662 11.637,8.575 10.262,8.575
  region: 8.662,10.175 8.575,10.263 8.575,11.638 8.662,11.725 8.838,11.725 8.925,11.638 8.925,10.263 8.838,10.175
  region: 8.162,10.175 8.075,10.263 8.075,11.638 8.162,11.725 8.337,11.725 8.425,11.638 8.425,10.263 8.337,10.175
  region: 7.662,10.175 7.575,10.263 7.575,11.638 7.662,11.725 7.838,11.725 7.925,11.638 7.925,10.263 7.838,10.175
  region: 7.162,10.175 7.075,10.263 7.075,11.638 7.162,11.725 7.337,11.725 7.425,11.638 7.425,10.263 7.337,10.175
  region: 6.662,10.175 6.575,10.263 6.575,11.638 6.662,11.725 6.837,11.725 6.925,11.638 6.925,10.263 6.837,10.175
  region: 6.162,10.175 6.075,10.263 6.075,11.638 6.162,11.725 6.338,11.725 6.425,11.638 6.425,10.263 6.338,10.175
  region: 5.662,10.175 5.575,10.263 5.575,11.638 5.662,11.725 5.837,11.725 5.925,11.638 5.925,10.263 5.837,10.175
  region: 5.162,10.175 5.075,10.263 5.075,11.638 5.162,11.725 5.338,11.725 5.425,11.638 5.425,10.263 5.338,10.175
  region: 4.662,10.175 4.575,10.263 4.575,11.638 4.662,11.725 4.837,11.725 4.925,11.638 4.925,10.263 4.837,10.175
  region: 4.162,10.175 4.075,10.263 4.075,11.638 4.162,11.725 4.337,11.725 4.425,11.638 4.425,10.263 4.337,10.175
  region: 3.662,10.175 3.575,10.263 3.575,11.638 3.662,11.725 3.838,11.725 3.925,11.638 3.925,10.263 3.838,10.175
  region: 3.162,10.175 3.075,10.263 3.075,11.638 3.162,11.725 3.337,11.725 3.425,11.638 3.425,10.263 3.337,10.175
  region: 2.662,10.175 2.575,10.263 2.575,11.638 2.662,11.725 2.838,11.725 2.925,11.638 2.925,10.263 2.838,10.175
  region: 2.162,10.175 2.075,10.263 2.075,11.638 2.162,11.725 2.337,11.725 2.425,11.638 2.425,10.263 2.337,10.175
  region: 1.662,10.175 1.575,10.263 1.575,11.638 1.662,11.725 1.837,11.725 1.925,11.638 1.925,10.263 1.837,10.175
  region: 1.162,10.175 1.075,10.263 1.075,11.638 1.162,11.725 1.338,11.725 1.425,11.638 1.425,10.263 1.338,10.175
  region: 0.662,10.175 0.575,10.263 0.575,11.638 0.662,11.725 0.837,11.725 0.925,11.638 0.925,10.263 0.837,10.175
  region: 0.162,10.175 0.075,10.263 0.075,11.638 0.162,11.725 0.337,11.725 0.425,11.638 0.425,10.263 0.337,10.175
  region: -0.338,10.175 -0.425,10.263 -0.425,11.638 -0.338,11.725 -0.163,11.725 -0.075,11.638 -0.075,10.263 -0.163,10.175
  region: -0.838,10.175 -0.925,10.263 -0.925,11.638 -0.838,11.725 -0.663,11.725 -0.575,11.638 -0.575,10.263 -0.663,10.175
  region: -1.338,10.175 -1.425,10.263 -1.425,11.638 -1.338,11.725 -1.162,11.725 -1.075,11.638 -1.075,10.263 -1.162,10.175
  region: -1.838,10.175 -1.925,10.263 -1.925,11.638 -1.838,11.725 -1.663,11.725 -1.575,11.638 -1.575,10.263 -1.663,10.175
  region: -2.338,10.175 -2.425,10.263 -2.425,11.638 -2.338,11.725 -2.163,11.725 -2.075,11.638 -2.075,10.263 -2.163,10.175
  region: -2.838,10.175 -2.925,10.263 -2.925,11.638 -2.838,11.725 -2.663,11.725 -2.575,11.638 -2.575,10.263 -2.663,10.175
  region: -3.338,10.175 -3.425,10.263 -3.425,11.638 -3.338,11.725 -3.163,11.725 -3.075,11.638 -3.075,10.263 -3.163,10.175
  region: -3.838,10.175 -3.925,10.263 -3.925,11.638 -3.838,11.725 -3.662,11.725 -3.575,11.638 -3.575,10.263 -3.662,10.175
  region: -4.338,10.175 -4.425,10.263 -4.425,11.638 -4.338,11.725 -4.163,11.725 -4.075,11.638 -4.075,10.263 -4.163,10.175
  region: -4.838,10.175 -4.925,10.263 -4.925,11.638 -4.838,11.725 -4.663,11.725 -4.575,11.638 -4.575,10.263 -4.663,10.175
  region: -5.338,10.175 -5.425,10.263 -5.425,11.638 -5.338,11.725 -5.163,11.725 -5.075,11.638 -5.075,10.263 -5.163,10.175
  region: -5.838,10.175 -5.925,10.263 -5.925,11.638 -5.838,11.725 -5.663,11.725 -5.575,11.638 -5.575,10.263 -5.663,10.175
  region: -6.338,10.175 -6.425,10.263 -6.425,11.638 -6.338,11.725 -6.162,11.725 -6.075,11.638 -6.075,10.263 -6.162,10.175
  region: -6.838,10.175 -6.925,10.263 -6.925,11.638 -6.838,11.725 -6.663,11.725 -6.575,11.638 -6.575,10.263 -6.663,10.175
  region: -7.338,10.175 -7.425,10.263 -7.425,11.638 -7.338,11.725 -7.163,11.725 -7.075,11.638 -7.075,10.263 -7.163,10.175
  region: -7.838,10.175 -7.925,10.263 -7.925,11.638 -7.838,11.725 -7.662,11.725 -7.575,11.638 -7.575,10.263 -7.662,10.175
  region: -8.338,10.175 -8.425,10.263 -8.425,11.638 -8.338,11.725 -8.163,11.725 -8.075,11.638 -8.075,10.263 -8.163,10.175
  region: -8.838,10.175 -8.925,10.263 -8.925,11.638 -8.838,11.725 -8.662,11.725 -8.575,11.638 -8.575,10.263 -8.662,10.175
Top Overlay:
  circle w0.25: c-10.95,9.475 r0.125
  circle w0.6: c-8.775,8.775 r0.3
  lines w0.2: -9.775,-9.775 -9.775,9.775 9.775,9.775 9.775,-9.775 -9.775,-9.775
Mechanical 13:
  circle w0.1: c-8.05,8.05 r0.5
  lines w0.1: -8.95,-8.95 -8.95,8.95 8.95,8.95 8.95,-8.95 -8.95,-8.95
Mechanical 15:
  lines w0.05: -11.95,-11.95 -11.95,11.95 11.95,11.95 11.95,-11.95 -11.95,-11.95
  lines w0.1: -0.5,0 0.5,0 ; 0,-0.5 0,0.5
3D body "TSQFP50P2260X2260X160-144Nn.step": height 1.6, standoff 0, extent -11.3,-11.3 11.3,11.3

## VQFN25_RGY_TEX [mil]
pads (25):
  rect 10x28 smd paste+0 mask+2.76: 1(-29.53,108) 12(-29.53,-108) 13(29.53,-108) 24(29.53,108)
  rect 28x10 smd paste+0 mask+2.76: 2(-69,88.61) 3(-69,68.92) 4(-69,49.23) 5(-69,29.54) 6(-69,9.85) 7(-69,-9.85) 8(-69,-29.54) 9(-69,-49.23) 10(-69,-68.92) 11(-69,-88.61) 14(69,-88.61) 15(69,-68.92) 16(69,-49.23) 17(69,-29.54) 18(69,-9.85) 19(69,9.85) 20(69,29.54) 21(69,49.23) 22(69,68.92) 23(69,88.61)
  rect 87x165 smd paste-82 mask+2.76: 25(0,0)
via 31.5,-26.77 diameter 15.75 hole 7.87
via -31.5,-26.77 diameter 15.75 hole 7.87
via -31.5,26.77 diameter 15.75 hole 7.87
via 31.5,26.77 diameter 15.75 hole 7.87
via 0,-70.87 diameter 15.75 hole 7.87
via 0,-26.77 diameter 15.75 hole 7.87
via 0,70.87 diameter 15.75 hole 7.87
via 0,26.77 diameter 15.75 hole 7.87
Top Overlay:
  circle w19.68: c-30,150 r2.76
  region: -93,-61.41 -103,-61.41 -103,-76.42 -93,-76.42
  region: 93,37.03 103,37.03 103,22.04 93,22.04
  lines w6: -76,-106.7 -76,-115 -47.63,-115 ; -76,106.7 -76,115 -47.63,115 ; -11.43,-115 11.43,-115 ; -11.43,115 11.43,115 ; 47.63,-115 76,-115 76,-106.7 ; 47.63,115 76,115 76,106.7
Top Paste:
  region: 39.56,78.56 -39.56,78.56 -39.56,31.44 39.56,31.44
  region: 39.56,23.56 -39.56,23.56 -39.56,-23.56 39.56,-23.56
  region: 39.56,-31.44 -39.56,-31.44 -39.56,-78.56 39.56,-78.56
Mechanical 13:
  lines w1: -71,60 -21,110 ; -71,-110 71,-110 71,110 -71,110 -71,-110
  text "*" at -42.03,69 h50
Mechanical 15:
  lines w6: -93,-104.61 -81,-104.61 -81,-120 -45.53,-120 -45.53,-132 45.53,-132 45.53,-120 81,-120 81,-104.61 93,-104.61 93,104.61 81,104.61 81,120 45.53,120 45.53,132 -45.53,132 -45.53,120 -81,120 -81,104.61 -93,104.61 -93,-104.61
3D body "VQFN25_RGY_TEX.step": height 39.09, standoff 0, extent -70.98,-110 70.98,110

## VQFN-HR [mm]
pads (12):
  rrect25% 0.6x0.25 smd mask+0.07: 1(-0.9,1.219) 2(-0.9,0.569) 3(-0.9,-0.081) 4(-0.9,-0.581) 8(0.9,-0.581) 9(0.9,-0.081) 10(0.9,0.569) 11(0.9,1.219)
  rrect25% 0.25x0.6 smd mask+0.07: 5(-0.5,-1.219) 6(0,-1.219) 7(0.5,-1.219)
  rrect25% 0.25x1.825 smd mask+0.07: 12(0,0.969)
Top Overlay:
  circle w0.5: c-1.524,1.778 r0.06
Mechanical 15:
  lines w0.1: -1.524,-1.778 1.524,-1.778 1.524,2.032 1.333,2.032 0.953,2.032 0.762,2.032 -0.762,2.032 -1.524,2.032 -1.524,-1.778
3D body "RNX0012A.stp": height 1, standoff 0, extent -1,-1.398 1,1.602